# EAGLE library part W237-136 (library _mtvl.con-wago-500)
WAGO SCREW CLAMP
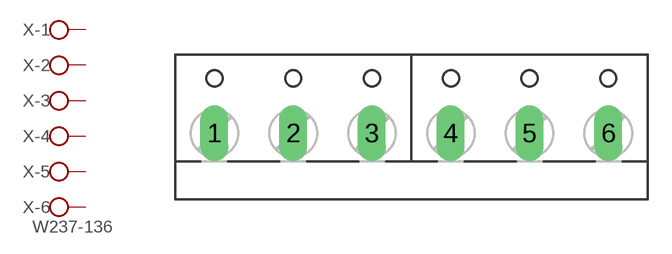
[diagram p0: symbol with the pads of W237-136; footprint W237-136]

Designator prefix X; gates -1=KL -2=KL -3=KL -4=KL -5=KL -6=KL+V

## W237-136 (MPN: 237-136; OC_FARNELL: unknown; OC_NEWARK: 84K9151)  [W237-136]
1  -1:KL  pas
2  -2:KL  pas
3  -3:KL  pas
4  -4:KL  pas
5  -5:KL  pas
6  -6:KL  pas

## Footprint W237-136 (pad centres in mm)
WAGO SCREW CLAMP
drill 1.194 long: 1 -12.5,-1.27; 2 -7.5,-1.27; 3 -2.5,-1.27; 4 2.5,-1.27; 5 7.5,-1.27; 6 12.5,-1.27